# Altium footprint library SOIC-8.PcbLib: 3 footprints
Each footprint in its own frame and in the unit in brackets; x right, y up, seen from the top. Pads: shape width x height; smd on the part's side, far side on the other; paste and mask are expansions set on the pad; w line width, h text height; cw(c..) or ccw(c..) is an arc to the next point about the centre after c.
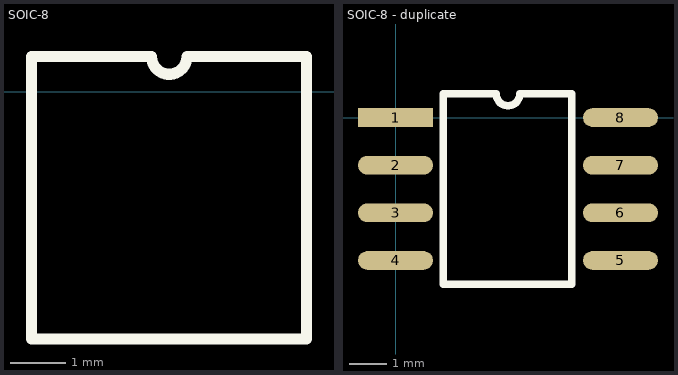
[diagram p0: the footprints below, top view; thin cyan lines are the x and y axes]

## PCBComponent_1 [mm]

## SOIC-8 [mm]
Top Overlay:
  lines w0.2: 1.27,-4.445 1.27,0.635 3.433,0.635 ccw(c3.75,0.635) 4.068,0.635 6.223,0.635 6.223,-4.445 1.27,-4.445
3D body "User Library-so8-3.step": height 1.7, standoff 0, extent 0.683,-4.355 6.683,0.545

## SOIC-8 - duplicate [mm]
pads (8):
  rect 2x0.5 smd: 1(0,0)
  oval 2x0.5 smd: 2(0,-1.27) 3(0,-2.54) 4(0,-3.81) 5(6,-3.81) 6(6,-2.54) 7(6,-1.27) 8(6,0)
Top Overlay:
  lines w0.2: 1.27,-4.445 1.27,0.635 2.682,0.635 ccw(c3,0.635) 3.317,0.635 4.699,0.635 4.699,-4.445 1.27,-4.445
3D body "User Library-so8-3.step": height 1.7, standoff 0, extent 0.048,-4.355 6.048,0.545